# Altium footprint library JAE.PcbLib: 1 footprints
Each footprint in its own frame and in the unit in brackets; x right, y up, seen from the top. Pads: shape width x height; smd on the part's side, far side on the other; paste and mask are expansions set on the pad; w line width, h text height; cw(c..) or ccw(c..) is an arc to the next point about the centre after c.
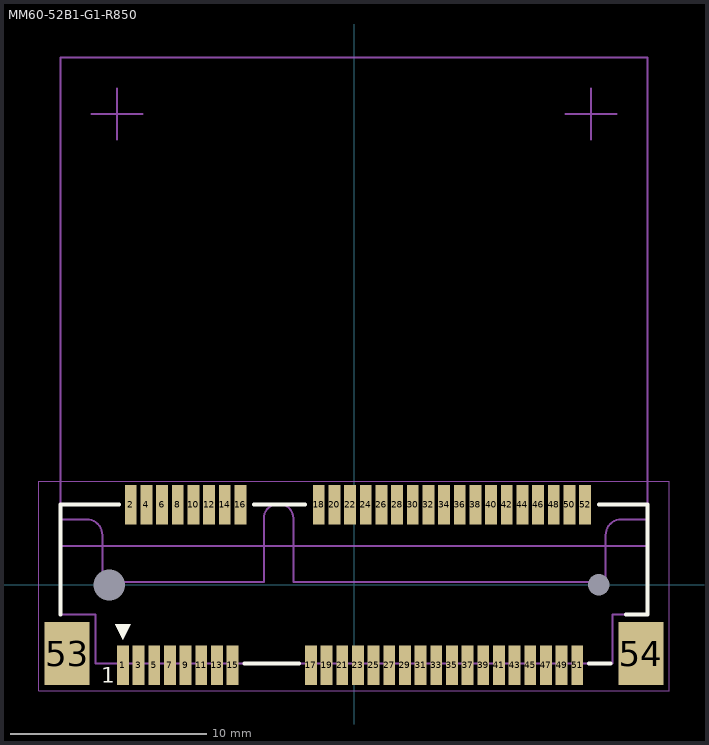
[diagram p0: the footprint, top view; thin cyan lines are the x and y axes]

## MM60-52B1-G1-R850 [mm] "CONN 52POS MINI EXPRESS CARD SMD"
pads (56):
  rect 0.6x2 smd mask+0.05: 1(-11.8,-4.1) 2(-11.4,4.1) 3(-11,-4.1) 4(-10.6,4.1) 5(-10.2,-4.1) 6(-9.8,4.1) 7(-9.4,-4.1) 8(-9,4.1) 9(-8.6,-4.1) 10(-8.2,4.1) 11(-7.8,-4.1) 12(-7.4,4.1) 13(-7,-4.1) 14(-6.6,4.1) 15(-6.2,-4.1) 16(-5.8,4.1) 17(-2.2,-4.1) 18(-1.8,4.1) 19(-1.4,-4.1) 20(-1,4.1) 21(-0.6,-4.1) 22(-0.2,4.1) 23(0.2,-4.1) 24(0.6,4.1) 25(1,-4.1) 26(1.4,4.1) 27(1.8,-4.1) 28(2.2,4.1) 29(2.6,-4.1) 30(3,4.1) 31(3.4,-4.1) 32(3.8,4.1) 33(4.2,-4.1) 34(4.6,4.1) 35(5,-4.1) 36(5.4,4.1) 37(5.8,-4.1) 38(6.2,4.1) 39(6.6,-4.1) 40(7,4.1) 41(7.4,-4.1) 42(7.8,4.1) 43(8.2,-4.1) 44(8.6,4.1) 45(9,-4.1) 46(9.4,4.1) 47(9.8,-4.1) 48(10.2,4.1) 49(10.6,-4.1) 50(11,4.1) 51(11.4,-4.1) 52(11.8,4.1)
  rect 2.3x3.2 smd: 53(-14.65,-3.5) 54(14.65,-3.5)
  rrect70% 0x0 hole 1.6: 55(-12.5,0)
  rrect70% 0x0 hole 1.1: 56(12.5,0)
Top Overlay:
  region: -11.8,-2.8 -11.4,-2 -12.2,-2
  lines w0.2: -15,-1.5 -15,4.1 -12,4.1 ; -5.6,-4 -2.8,-4 ; -5.1,4.1 -2.5,4.1 ; 12,-4 13.1,-4 ; 12.5,4.1 15,4.1 15,-1.5 13.9,-1.5
  text "1" at -12.9,-5 h0.8
Mechanical 13:
  lines w0.1: -15,2 15,2 ; -15,4.1 -15,-1.5 -13.2,-1.5 -13.2,-4 13.2,-4 13.2,-1.5 15,-1.5 15,4.1 ; -13.4,24.05 -10.8,24.05 ; -12.1,22.75 -12.1,25.35 ; 10.8,24.05 13.4,24.05 ; 12.1,22.75 12.1,25.35 ; -15,3.35 -15,26.95 15,26.95 15,3.35 13.65,3.35 ccw(c13.65,2.55) 12.85,2.55 12.85,0.15 -3.1,0.15 -3.1,3.4 ccw(c-3.85,3.4) -4.6,3.4 -4.6,0.15 -12.85,0.15 -12.85,2.55 ccw(c-13.65,2.55) -13.65,3.35 -15,3.35
Mechanical 15:
  lines w0.05: -16.1,-5.4 -16.1,5.3 16.1,5.3 16.1,-5.4 -16.1,-5.4
  text ".Designator" at -4.6,0 h2
3D body "K3D-MM60-52B1-G1-V1_JAE_Proprietary.step": height 4, standoff -0.8, extent -14.95,-4.6 14.95,5